# Altium footprint library Fuse.PcbLib: 117 footprints (part 3 of 8)
Each footprint in its own frame and in the unit in brackets; x right, y up, seen from the top. Pads: shape width x height; smd on the part's side, far side on the other; paste and mask are expansions set on the pad; w line width, h text height; cw(c..) or ccw(c..) is an arc to the next point about the centre after c.
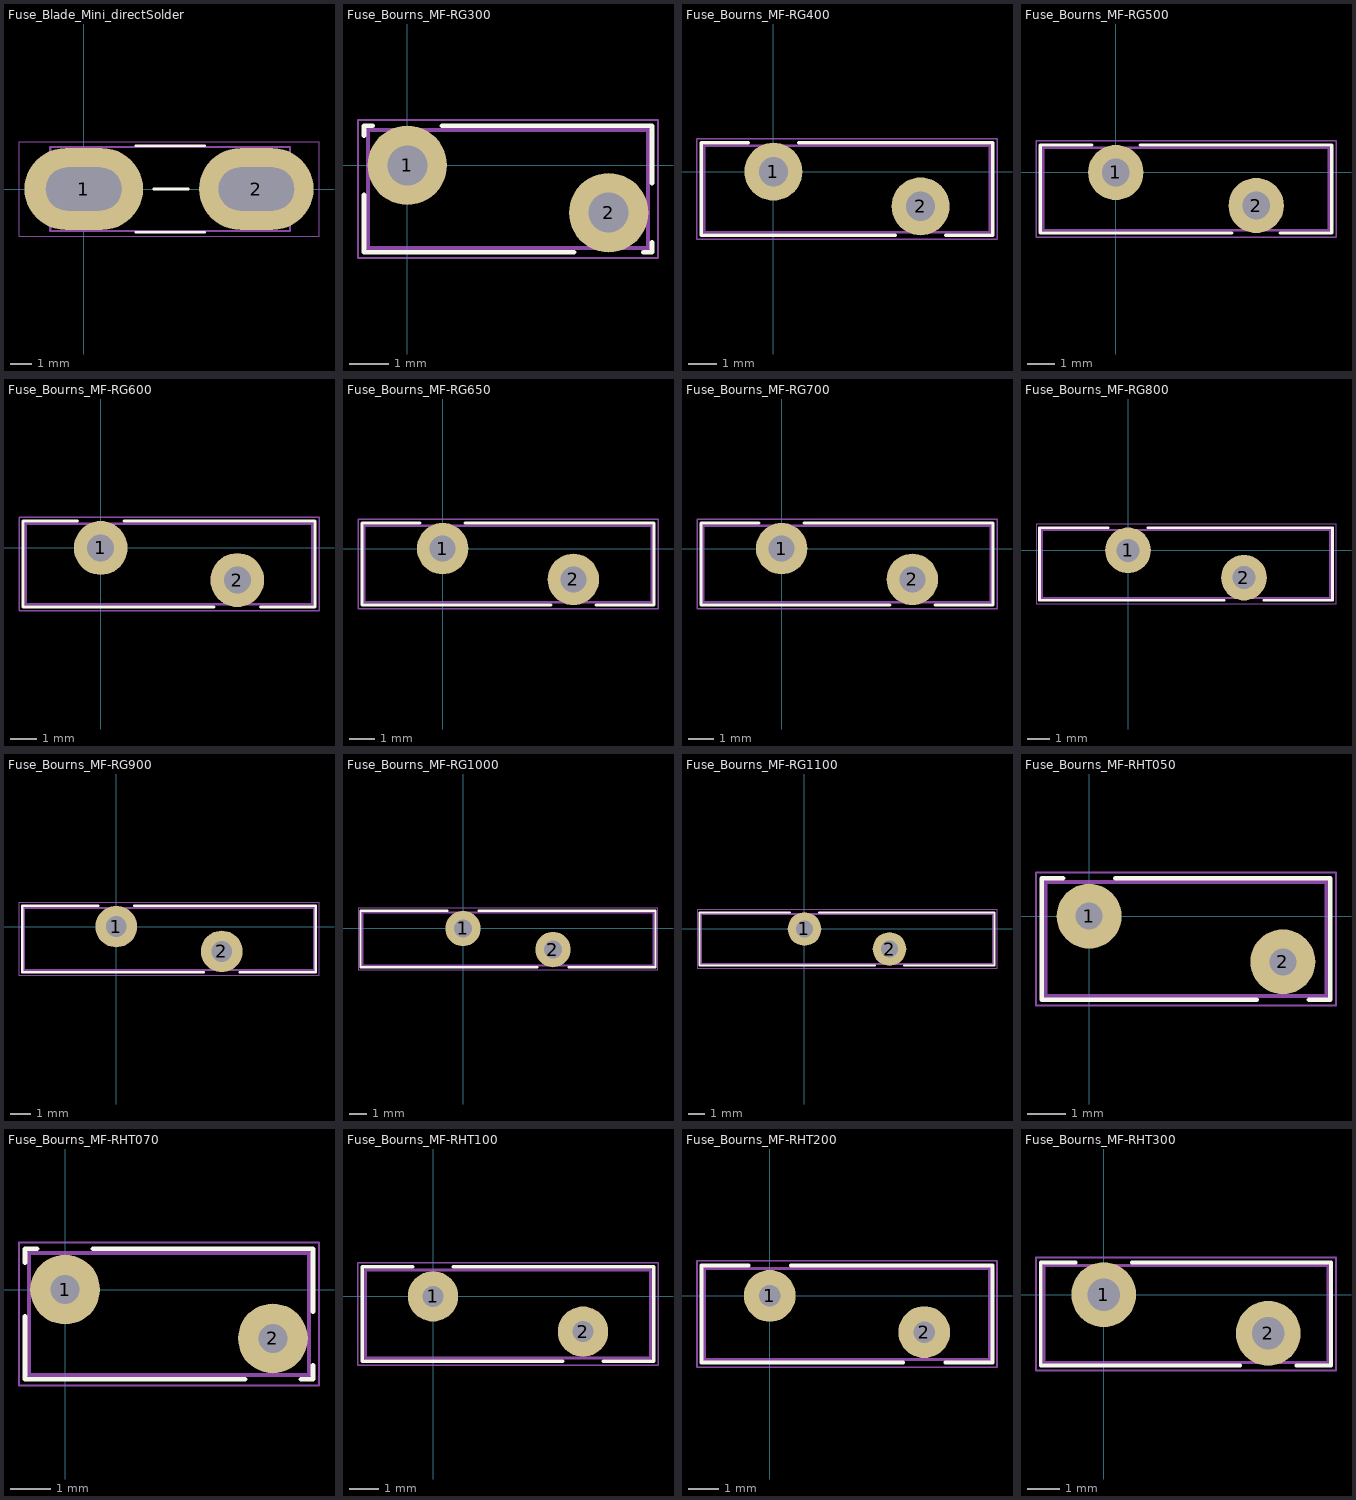
[diagram p2: the footprints below, top view; thin cyan lines are the x and y axes]

## Fuse_Blade_Mini_directSolder [mm]
pads (2):
  rrect100% 5.5x3.8 hole 2 slot 3.5 at 0 deg: 1(0,0)
  rrect100% 5.3x3.8 hole 2 slot 3.5 at 0 deg: 2(8,0)
F.SilkS:
  lines w0.12: 2.4,-2 5.6,-2 ; 2.4,2 5.6,2 ; 3.25,0 4.85,0
F.CrtYd:
  lines w0.05: -3,-2.2 -3,2.2 10.9,2.2 10.9,-2.2 -3,-2.2
F.Fab:
  lines w0.1: -1.55,-1.95 -1.55,1.95 9.55,1.95 9.55,-1.95 -1.55,-1.95
  text "'.Designator'" at 0.203,0.16 h1

## Fuse_Bourns_MF-RG300 [mm]
pads (2):
  round 2.01 hole 1.01: 1(0,0) 2(5.1,-1.2)
F.SilkS:
  lines w0.12: -1.1,-0.75 -1.1,-2.2 4.222,-2.2 ; -1.1,0.75 -1.1,1 -0.879,1 ; 0.879,1 6.2,1 6.2,-0.451 ; 5.979,-2.2 6.2,-2.2 6.2,-1.95
F.CrtYd:
  lines w0.05: -1.25,-2.35 -1.25,1.15 6.35,1.15 6.35,-2.35 -1.25,-2.35
F.Fab:
  lines w0.1: -1,-2.1 6.1,-2.1 6.1,0.9 -1,0.9 -1,-2.1
  text "'.Designator'" at -1.497,-1.44 h1

## Fuse_Bourns_MF-RG400 [mm]
pads (2):
  round 2.01 hole 1.01: 1(0,0) 2(5.1,-1.2)
F.SilkS:
  lines w0.12: -0.879,1 -2.501,1 -2.501,-2.2 4.222,-2.2 ; 0.879,1 7.6,1 7.6,-2.2 5.979,-2.2
F.CrtYd:
  lines w0.05: -2.65,-2.35 7.75,-2.35 7.75,1.15 -2.65,1.15 -2.65,-2.35
F.Fab:
  lines w0.1: -2.4,-2.1 -2.4,0.9 7.5,0.9 7.5,-2.1 -2.4,-2.1
  text "'.Designator'" at -1.497,-1.44 h1

## Fuse_Bourns_MF-RG500 [mm]
pads (2):
  round 2.01 hole 1.01: 1(0,0) 2(5.1,-1.2)
F.SilkS:
  lines w0.12: -0.879,1 -2.751,1 -2.751,-2.2 4.222,-2.2 ; 0.879,1 7.85,1 7.85,-2.2 5.979,-2.2
F.CrtYd:
  lines w0.05: -2.9,-2.35 -2.9,1.15 8,1.15 8,-2.35 -2.9,-2.35
F.Fab:
  lines w0.1: -2.65,-2.1 -2.65,0.9 7.75,0.9 7.75,-2.1 -2.65,-2.1
  text "'.Designator'" at -1.497,-1.44 h1

## Fuse_Bourns_MF-RG600 [mm]
pads (2):
  round 2.01 hole 1.01: 1(0,0) 2(5.1,-1.2)
F.SilkS:
  lines w0.12: -0.879,1 -2.9,1 -2.9,-2.2 4.222,-2.2 ; 0.879,1 8,1 8,-2.2 5.979,-2.2
F.CrtYd:
  lines w0.05: -3.05,-2.35 -3.05,1.15 8.15,1.15 8.15,-2.35 -3.05,-2.35
F.Fab:
  lines w0.1: -2.8,-2.1 -2.8,0.9 7.9,0.9 7.9,-2.1 -2.8,-2.1
  text "'.Designator'" at -1.497,-1.44 h1

## Fuse_Bourns_MF-RG650 [mm]
pads (2):
  round 2.01 hole 1.01: 1(0,0) 2(5.1,-1.2)
F.SilkS:
  lines w0.12: -0.879,1 -3.15,1 -3.15,-2.2 4.222,-2.2 ; 0.879,1 8.25,1 8.25,-2.2 5.979,-2.2
F.CrtYd:
  lines w0.05: -3.3,-2.35 8.4,-2.35 8.4,1.15 -3.3,1.15 -3.3,-2.35
F.Fab:
  lines w0.1: -3.05,-2.1 8.15,-2.1 8.15,0.9 -3.05,0.9 -3.05,-2.1
  text "'.Designator'" at -1.497,-1.44 h1

## Fuse_Bourns_MF-RG700 [mm]
pads (2):
  round 2.01 hole 1.01: 1(0,0) 2(5.1,-1.2)
F.SilkS:
  lines w0.12: -0.879,1 -3.15,1 -3.15,-2.2 4.222,-2.2 ; 0.879,1 8.25,1 8.25,-2.2 5.979,-2.2
F.CrtYd:
  lines w0.05: -3.3,-2.35 8.4,-2.35 8.4,1.15 -3.3,1.15 -3.3,-2.35
F.Fab:
  lines w0.1: -3.05,-2.1 8.15,-2.1 8.15,0.9 -3.05,0.9 -3.05,-2.1
  text "'.Designator'" at -1.497,-1.44 h1

## Fuse_Bourns_MF-RG800 [mm]
pads (2):
  round 2.01 hole 1.01: 1(0,0) 2(5.1,-1.2)
F.SilkS:
  lines w0.12: -0.879,1 -3.9,1 -3.9,-2.2 4.222,-2.2 ; 0.879,1 9,1 9,-2.2 5.979,-2.2
F.CrtYd:
  lines w0.05: -4.05,-2.35 -4.05,1.15 9.15,1.15 9.15,-2.35 -4.05,-2.35
F.Fab:
  lines w0.1: -3.8,-2.1 -3.8,0.9 8.9,0.9 8.9,-2.1 -3.8,-2.1
  text "'.Designator'" at -1.497,-1.44 h1

## Fuse_Bourns_MF-RG900 [mm]
pads (2):
  round 2.01 hole 1.01: 1(0,0) 2(5.1,-1.2)
F.SilkS:
  lines w0.12: -0.879,1 -4.55,1 -4.55,-2.2 4.222,-2.2 ; 0.879,1 9.65,1 9.65,-2.2 5.979,-2.2
F.CrtYd:
  lines w0.05: -4.7,-2.35 -4.7,1.15 9.8,1.15 9.8,-2.35 -4.7,-2.35
F.Fab:
  lines w0.1: -4.45,-2.1 -4.45,0.9 9.55,0.9 9.55,-2.1 -4.45,-2.1
  text "'.Designator'" at -1.497,-1.44 h1

## Fuse_Bourns_MF-RG1000 [mm]
pads (2):
  round 2.01 hole 1.01: 1(0,0) 2(5.1,-1.2)
F.SilkS:
  lines w0.12: -0.879,1 -5.8,1 -5.8,-2.2 4.222,-2.2 ; 0.879,1 10.9,1 10.9,-2.2 5.979,-2.2
F.CrtYd:
  lines w0.05: -5.95,-2.35 -5.95,1.15 11.05,1.15 11.05,-2.35 -5.95,-2.35
F.Fab:
  lines w0.1: -5.7,-2.1 10.8,-2.1 10.8,0.9 -5.7,0.9 -5.7,-2.1
  text "'.Designator'" at -1.497,-1.44 h1

## Fuse_Bourns_MF-RG1100 [mm]
pads (2):
  round 2.01 hole 1.01: 1(0,0) 2(5.1,-1.2)
F.SilkS:
  lines w0.12: -0.879,1 -6.3,1 -6.3,-2.2 4.222,-2.2 ; 0.879,1 11.4,1 11.4,-2.2 5.979,-2.2
F.CrtYd:
  lines w0.05: -6.45,-2.35 11.55,-2.35 11.55,1.15 -6.45,1.15 -6.45,-2.35
F.Fab:
  lines w0.1: -6.2,-2.1 -6.2,0.9 11.3,0.9 11.3,-2.1 -6.2,-2.1
  text "'.Designator'" at -1.497,-1.44 h1

## Fuse_Bourns_MF-RHT050 [mm]
pads (2):
  round 1.71 hole 0.71: 1(0,0) 2(5.1,-1.2)
F.SilkS:
  lines w0.12: -0.689,1 -1.251,1 -1.251,-2.2 4.412,-2.2 ; 0.689,1 6.35,1 6.35,-2.2 5.789,-2.2
F.CrtYd:
  lines w0.05: -1.4,-2.35 6.5,-2.35 6.5,1.15 -1.4,1.15 -1.4,-2.35
F.Fab:
  lines w0.1: -1.15,-2.1 -1.15,0.9 6.25,0.9 6.25,-2.1 -1.15,-2.1
  text "'.Designator'" at -1.497,-1.44 h1

## Fuse_Bourns_MF-RHT070 [mm]
pads (2):
  round 1.71 hole 0.71: 1(0,0) 2(5.1,-1.2)
F.SilkS:
  lines w0.12: -0.981,-0.665 -0.981,-2.2 4.412,-2.2 ; -0.981,0.665 -0.981,1 -0.689,1 ; 0.689,1 6.08,1 6.08,-0.536 ; 5.789,-2.2 6.08,-2.2 6.08,-1.865
F.CrtYd:
  lines w0.05: -1.13,-2.35 -1.13,1.15 6.23,1.15 6.23,-2.35 -1.13,-2.35
F.Fab:
  lines w0.1: -0.88,-2.1 5.98,-2.1 5.98,0.9 -0.88,0.9 -0.88,-2.1
  text "'.Designator'" at -1.497,-1.44 h1

## Fuse_Bourns_MF-RHT100 [mm]
pads (2):
  round 1.71 hole 0.71: 1(0,0) 2(5.1,-1.2)
F.SilkS:
  lines w0.12: -0.689,1 -2.4,1 -2.4,-2.2 4.412,-2.2 ; 0.689,1 7.5,1 7.5,-2.2 5.789,-2.2
F.CrtYd:
  lines w0.05: -2.55,-2.35 7.65,-2.35 7.65,1.15 -2.55,1.15 -2.55,-2.35
F.Fab:
  lines w0.1: -2.3,-2.1 -2.3,0.9 7.4,0.9 7.4,-2.1 -2.3,-2.1
  text "'.Designator'" at -1.497,-1.44 h1

## Fuse_Bourns_MF-RHT200 [mm]
pads (2):
  round 1.71 hole 0.71: 1(0,0) 2(5.1,-1.2)
F.SilkS:
  lines w0.12: -0.689,1 -2.251,1 -2.251,-2.2 4.412,-2.2 ; 0.689,1 7.35,1 7.35,-2.2 5.789,-2.2
F.CrtYd:
  lines w0.05: -2.4,-2.35 7.5,-2.35 7.5,1.15 -2.4,1.15 -2.4,-2.35
F.Fab:
  lines w0.1: -2.15,-2.1 -2.15,0.9 7.25,0.9 7.25,-2.1 -2.15,-2.1
  text "'.Designator'" at -1.497,-1.44 h1

## Fuse_Bourns_MF-RHT300 [mm]
pads (2):
  round 2.01 hole 1.01: 1(0,0) 2(5.1,-1.2)
F.SilkS:
  lines w0.12: -0.879,1 -1.951,1 -1.951,-2.2 4.222,-2.2 ; 0.879,1 7.05,1 7.05,-2.2 5.979,-2.2
F.CrtYd:
  lines w0.05: -2.1,-2.35 7.2,-2.35 7.2,1.15 -2.1,1.15 -2.1,-2.35
F.Fab:
  lines w0.1: -1.85,-2.1 6.95,-2.1 6.95,0.9 -1.85,0.9 -1.85,-2.1
  text "'.Designator'" at -1.497,-1.44 h1